# EAGLE library part SLG46723V (library GREENPAK)
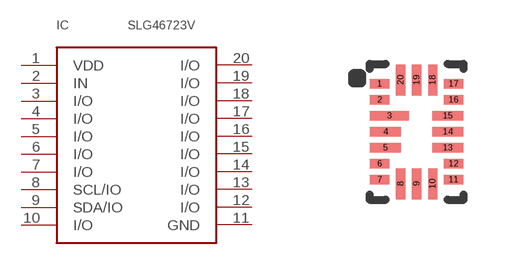
[diagram p32: symbol with the pads of STQFN-20_N; footprint STQFN-20_N]

Designator prefix IC

## SLG46723V  [STQFN-20_N]
1  VDD
2  IN
3  I/O
4  I/O
5  I/O
6  I/O
7  I/O
8  SCL/IO
9  SDA/IO
10  I/O
11  GND
12  I/O
13  I/O
14  I/O
15  I/O
16  I/O
17  I/O
18  I/O
19  I/O
20  I/O

## Footprint STQFN-20_N (pad centres in mm)
smd 0.485 x 0.23: 1 -0.925,1.2; 2 -0.925,0.8; 6 -0.925,-0.8; 7 -0.925,-1.2; 11 0.925,-1.2; 12 0.925,-0.8; 16 0.925,0.8; 17 0.925,1.2
smd 0.975 x 0.23: 3 -0.68,0.4
smd 0.775 x 0.23: 4 -0.78,0; 5 -0.78,-0.4; 13 0.78,-0.4; 14 0.78,0; 15 0.78,0.4
smd 0.23 x 0.775: 8 -0.4,-1.3; 9 0,-1.3; 10 0.4,-1.3; 18 0.4,1.3; 19 0,1.3; 20 -0.4,1.3